# EAGLE library part LPC2468FET208 (library nxp-arm)
MICROCONTROLLER Single-chip 16-bit/32-bit micro; 512 kB flash, Ethernet, CAN, ISP/IAP, USB 2.0 device/host/OTG, external memory interface
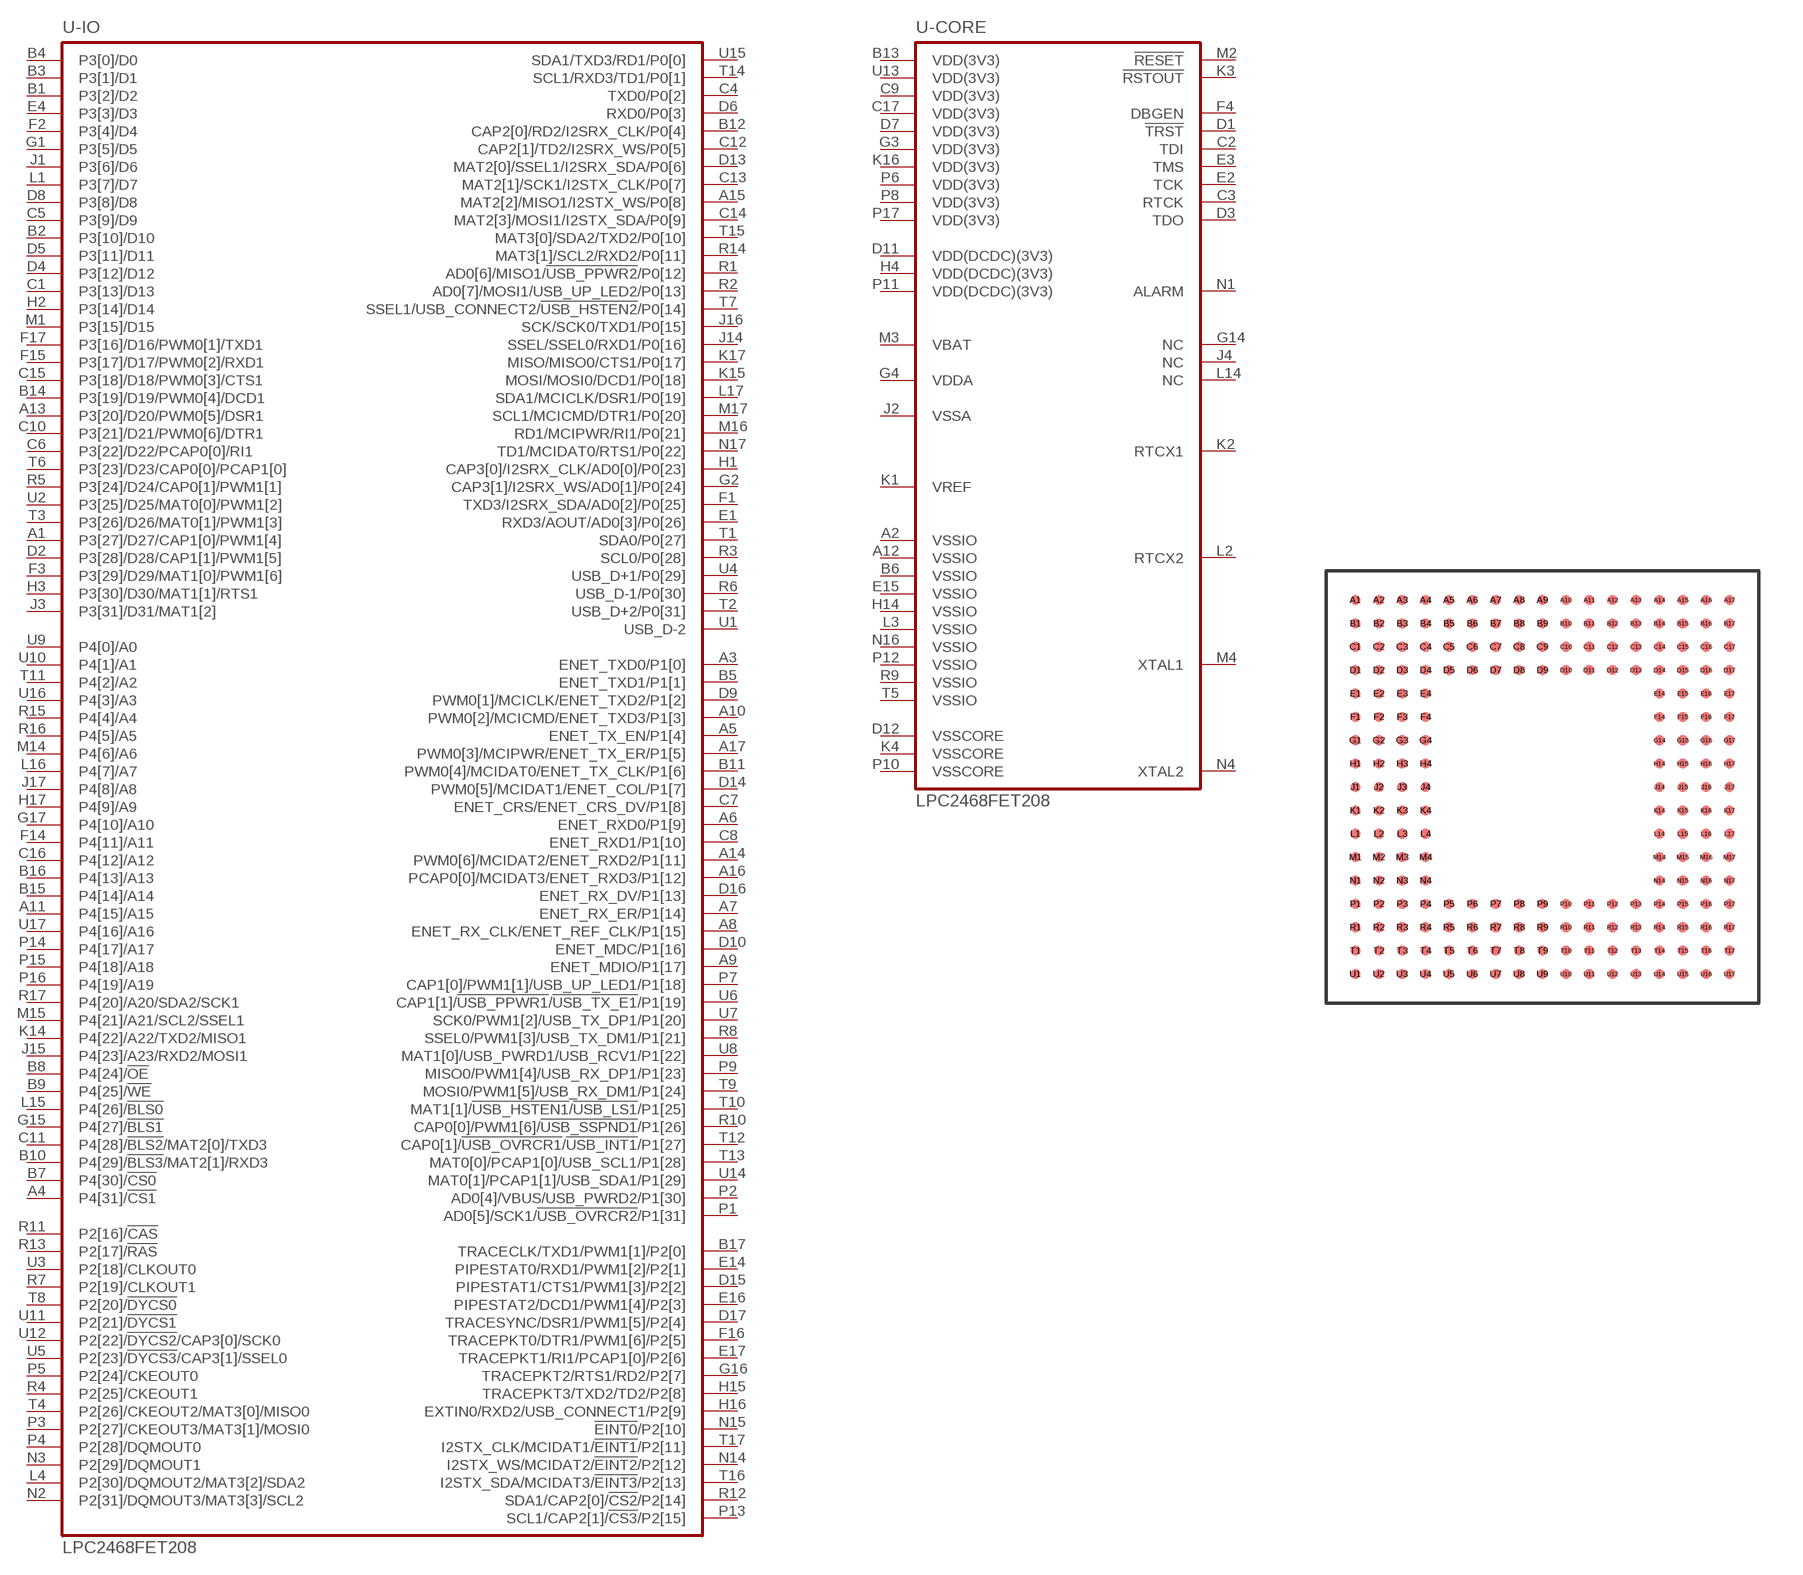
[diagram p1: symbol with the pads of TFBGA208; footprint TFBGA208]

Designator prefix U; gates -CORE=LPC2468-CORE -IO=LPC2468-IO

## LPC2468FET208 (P1I: o)  [TFBGA208]
A1  -IO:P3[27]/D27/CAP1[0]/PWM1[4]
A2  -CORE:VSSIO  pwr
A3  -IO:ENET_TXD0/P1[0]
A4  -IO:P4[31]/!CS1!
A5  -IO:ENET_TX_EN/P1[4]
A6  -IO:ENET_RXD0/P1[9]
A7  -IO:ENET_RX_ER/P1[14]
A8  -IO:ENET_RX_CLK/ENET_REF_CLK/P1[15]
A9  -IO:ENET_MDIO/P1[17]
A10  -IO:PWM0[2]/MCICMD/ENET_TXD3/P1[3]
A11  -IO:P4[15]/A15
A12  -CORE:VSSIO  pwr
A13  -IO:P3[20]/D20/PWM0[5]/DSR1
A14  -IO:PWM0[6]/MCIDAT2/ENET_RXD2/P1[11]
A15  -IO:MAT2[2]/MISO1/I2STX_WS/P0[8]
A16  -IO:PCAP0[0]/MCIDAT3/ENET_RXD3/P1[12]
A17  -IO:PWM0[3]/MCIPWR/ENET_TX_ER/P1[5]
B1  -IO:P3[2]/D2
B2  -IO:P3[10]/D10
B3  -IO:P3[1]/D1
B4  -IO:P3[0]/D0
B5  -IO:ENET_TXD1/P1[1]
B6  -CORE:VSSIO  pwr
B7  -IO:P4[30]/!CS0!
B8  -IO:P4[24]/!OE!
B9  -IO:P4[25]/!WE!
B10  -IO:P4[29]/!BLS3!/MAT2[1]/RXD3
B11  -IO:PWM0[4]/MCIDAT0/ENET_TX_CLK/P1[6]
B12  -IO:CAP2[0]/RD2/I2SRX_CLK/P0[4]
B13  -CORE:VDD(3V3)  pwr
B14  -IO:P3[19]/D19/PWM0[4]/DCD1
B15  -IO:P4[14]/A14
B16  -IO:P4[13]/A13
B17  -IO:TRACECLK/TXD1/PWM1[1]/P2[0]
C1  -IO:P3[13]/D13
C2  -CORE:TDI  in
C3  -CORE:RTCK
C4  -IO:TXD0/P0[2]
C5  -IO:P3[9]/D9
C6  -IO:P3[22]/D22/PCAP0[0]/RI1
C7  -IO:ENET_CRS/ENET_CRS_DV/P1[8]
C8  -IO:ENET_RXD1/P1[10]
C9  -CORE:VDD(3V3)  pwr
C10  -IO:P3[21]/D21/PWM0[6]/DTR1
C11  -IO:P4[28]/!BLS2!/MAT2[0]/TXD3
C12  -IO:CAP2[1]/TD2/I2SRX_WS/P0[5]
C13  -IO:MAT2[1]/SCK1/I2STX_CLK/P0[7]
C14  -IO:MAT2[3]/MOSI1/I2STX_SDA/P0[9]
C15  -IO:P3[18]/D18/PWM0[3]/CTS1
C16  -IO:P4[12]/A12
C17  -CORE:VDD(3V3)  pwr
D1  -CORE:!TRST!  in
D2  -IO:P3[28]/D28/CAP1[1]/PWM1[5]
D3  -CORE:TDO  out
D4  -IO:P3[12]/D12
D5  -IO:P3[11]/D11
D6  -IO:RXD0/P0[3]
D7  -CORE:VDD(3V3)  pwr
D8  -IO:P3[8]/D8
D9  -IO:PWM0[1]/MCICLK/ENET_TXD2/P1[2]
D10  -IO:ENET_MDC/P1[16]
D11  -CORE:VDD(DCDC)(3V3)  pwr
D12  -CORE:VSSCORE  pwr
D13  -IO:MAT2[0]/SSEL1/I2SRX_SDA/P0[6]
D14  -IO:PWM0[5]/MCIDAT1/ENET_COL/P1[7]
D15  -IO:PIPESTAT1/CTS1/PWM1[3]/P2[2]
D16  -IO:ENET_RX_DV/P1[13]
D17  -IO:TRACESYNC/DSR1/PWM1[5]/P2[4]
E1  -IO:RXD3/AOUT/AD0[3]/P0[26]
E2  -CORE:TCK  in
E3  -CORE:TMS  in
E4  -IO:P3[3]/D3
E14  -IO:PIPESTAT0/RXD1/PWM1[2]/P2[1]
E15  -CORE:VSSIO  pwr
E16  -IO:PIPESTAT2/DCD1/PWM1[4]/P2[3]
E17  -IO:TRACEPKT1/RI1/PCAP1[0]/P2[6]
F1  -IO:TXD3/I2SRX_SDA/AD0[2]/P0[25]
F2  -IO:P3[4]/D4
F3  -IO:P3[29]/D29/MAT1[0]/PWM1[6]
F4  -CORE:DBGEN  in
F14  -IO:P4[11]/A11
F15  -IO:P3[17]/D17/PWM0[2]/RXD1
F16  -IO:TRACEPKT0/DTR1/PWM1[6]/P2[5]
F17  -IO:P3[16]/D16/PWM0[1]/TXD1
G1  -IO:P3[5]/D5
G2  -IO:CAP3[1]/I2SRX_WS/AD0[1]/P0[24]
G3  -CORE:VDD(3V3)  pwr
G4  -CORE:VDDA  pwr
G14  -CORE:NC  nc
G15  -IO:P4[27]/!BLS1!
G16  -IO:TRACEPKT2/RTS1/RD2/P2[7]
G17  -IO:P4[10]/A10
H1  -IO:CAP3[0]/I2SRX_CLK/AD0[0]/P0[23]
H2  -IO:P3[14]/D14
H3  -IO:P3[30]/D30/MAT1[1]/RTS1
H4  -CORE:VDD(DCDC)(3V3)  pwr
H14  -CORE:VSSIO  pwr
H15  -IO:TRACEPKT3/TXD2/TD2/P2[8]
H16  -IO:EXTIN0/RXD2/USB_CONNECT1/P2[9]
H17  -IO:P4[9]/A9
J1  -IO:P3[6]/D6
J2  -CORE:VSSA  pwr
J3  -IO:P3[31]/D31/MAT1[2]
J4  -CORE:NC  nc
J14  -IO:SSEL/SSEL0/RXD1/P0[16]
J15  -IO:P4[23]/A23/RXD2/MOSI1
J16  -IO:SCK/SCK0/TXD1/P0[15]
J17  -IO:P4[8]/A8
K1  -CORE:VREF  pwr
K2  -CORE:RTCX1  in
K3  -CORE:!RSTOUT!  out
K4  -CORE:VSSCORE  pwr
K14  -IO:P4[22]/A22/TXD2/MISO1
K15  -IO:MOSI/MOSI0/DCD1/P0[18]
K16  -CORE:VDD(3V3)  pwr
K17  -IO:MISO/MISO0/CTS1/P0[17]
L1  -IO:P3[7]/D7
L2  -CORE:RTCX2  out
L3  -CORE:VSSIO  pwr
L4  -IO:P2[30]/DQMOUT2/MAT3[2]/SDA2
L14  -CORE:NC  nc
L15  -IO:P4[26]/!BLS0!
L16  -IO:P4[7]/A7
L17  -IO:SDA1/MCICLK/DSR1/P0[19]
M1  -IO:P3[15]/D15
M2  -CORE:!RESET!  in
M3  -CORE:VBAT  pwr
M4  -CORE:XTAL1  in
M14  -IO:P4[6]/A6
M15  -IO:P4[21]/A21/SCL2/SSEL1
M16  -IO:RD1/MCIPWR/RI1/P0[21]
M17  -IO:SCL1/MCICMD/DTR1/P0[20]
N1  -CORE:ALARM  out
N2  -IO:P2[31]/DQMOUT3/MAT3[3]/SCL2
N3  -IO:P2[29]/DQMOUT1
N4  -CORE:XTAL2  out
N14  -IO:I2STX_WS/MCIDAT2/!EINT2!/P2[12]
N15  -IO:!EINT0!/P2[10]
N16  -CORE:VSSIO  pwr
N17  -IO:TD1/MCIDAT0/RTS1/P0[22]
P1  -IO:AD0[5]/SCK1/!USB_OVRCR2!/P1[31]
P2  -IO:AD0[4]/VBUS/USB_PWRD2/P1[30]
P3  -IO:P2[27]/CKEOUT3/MAT3[1]/MOSI0
P4  -IO:P2[28]/DQMOUT0
P5  -IO:P2[24]/CKEOUT0
P6  -CORE:VDD(3V3)  pwr
P7  -IO:CAP1[0]/PWM1[1]/USB_UP_LED1/P1[18]
P8  -CORE:VDD(3V3)  pwr
P9  -IO:MISO0/PWM1[4]/USB_RX_DP1/P1[23]
P10  -CORE:VSSCORE  pwr
P11  -CORE:VDD(DCDC)(3V3)  pwr
P12  -CORE:VSSIO  pwr
P13  -IO:SCL1/CAP2[1]/!CS3!/P2[15]
P14  -IO:P4[17]/A17
P15  -IO:P4[18]/A18
P16  -IO:P4[19]/A19
P17  -CORE:VDD(3V3)  pwr
R1  -IO:AD0[6]/MISO1/!USB_PPWR2!/P0[12]
R2  -IO:AD0[7]/MOSI1/USB_UP_LED2/P0[13]
R3  -IO:SCL0/P0[28]
R4  -IO:P2[25]/CKEOUT1
R5  -IO:P3[24]/D24/CAP0[1]/PWM1[1]
R6  -IO:USB_D-1/P0[30]
R7  -IO:P2[19]/CLKOUT1
R8  -IO:SSEL0/PWM1[3]/USB_TX_DM1/P1[21]
R9  -CORE:VSSIO  pwr
R10  -IO:CAP0[0]/PWM1[6]/!USB_SSPND1!/P1[26]
R11  -IO:P2[16]/!CAS!
R12  -IO:SDA1/CAP2[0]/!CS2!/P2[14]
R13  -IO:P2[17]/!RAS!
R14  -IO:MAT3[1]/SCL2/RXD2/P0[11]
R15  -IO:P4[4]/A4
R16  -IO:P4[5]/A5
R17  -IO:P4[20]/A20/SDA2/SCK1
T1  -IO:SDA0/P0[27]
T2  -IO:USB_D+2/P0[31]
T3  -IO:P3[26]/D26/MAT0[1]/PWM1[3]
T4  -IO:P2[26]/CKEOUT2/MAT3[0]/MISO0
T5  -CORE:VSSIO  pwr
T6  -IO:P3[23]/D23/CAP0[0]/PCAP1[0]
T7  -IO:SSEL1/USB_CONNECT2/!USB_HSTEN2!/P0[14]
T8  -IO:P2[20]/!DYCS0!
T9  -IO:MOSI0/PWM1[5]/USB_RX_DM1/P1[24]
T10  -IO:MAT1[1]/!USB_HSTEN1!/!USB_LS1!/P1[25]
T11  -IO:P4[2]/A2
T12  -IO:CAP0[1]/!USB_OVRCR1!/!USB_INT1!/P1[27]
T13  -IO:MAT0[0]/PCAP1[0]/USB_SCL1/P1[28]
T14  -IO:SCL1/RXD3/TD1/P0[1]
T15  -IO:MAT3[0]/SDA2/TXD2/P0[10]
T16  -IO:I2STX_SDA/MCIDAT3/!EINT3!/P2[13]
T17  -IO:I2STX_CLK/MCIDAT1/!EINT1!/P2[11]
U1  -IO:USB_D-2
U2  -IO:P3[25]/D25/MAT0[0]/PWM1[2]
U3  -IO:P2[18]/CLKOUT0
U4  -IO:USB_D+1/P0[29]
U5  -IO:P2[23]/!DYCS3!/CAP3[1]/SSEL0
U6  -IO:CAP1[1]/!USB_PPWR1!/!USB_TX_E1!/P1[19]
U7  -IO:SCK0/PWM1[2]/USB_TX_DP1/P1[20]
U8  -IO:MAT1[0]/USB_PWRD1/USB_RCV1/P1[22]
U9  -IO:P4[0]/A0
U10  -IO:P4[1]/A1
U11  -IO:P2[21]/!DYCS1!
U12  -IO:P2[22]/!DYCS2!/CAP3[0]/SCK0
U13  -CORE:VDD(3V3)  pwr
U14  -IO:MAT0[1]/PCAP1[1]/USB_SDA1/P1[29]
U15  -IO:SDA1/TXD3/RD1/P0[0]
U16  -IO:P4[3]/A3
U17  -IO:P4[16]/A16

## Footprint TFBGA208 (pad centres in mm)
TFBGA208 body 15 x 15 x 0.7 mm, pitch 0.8 mm outline SOT950-1
smd 0.35 x 0.35: A1 -6.4,6.4; A2 -5.6,6.4; A3 -4.8,6.4; A4 -4,6.4; A5 -3.2,6.4; A6 -2.4,6.4; A7 -1.6,6.4; A8 -0.8,6.4; A9 0,6.4; A10 0.8,6.4; A11 1.6,6.4; A12 2.4,6.4; A13 3.2,6.4; A14 4,6.4; A15 4.8,6.4; A16 5.6,6.4; A17 6.4,6.4; B1 -6.4,5.6; B2 -5.6,5.6; B3 -4.8,5.6; B4 -4,5.6; B5 -3.2,5.6; B6 -2.4,5.6; B7 -1.6,5.6; B8 -0.8,5.6; B9 0,5.6; B10 0.8,5.6; B11 1.6,5.6; B12 2.4,5.6; B13 3.2,5.6; B14 4,5.6; B15 4.8,5.6; B16 5.6,5.6; B17 6.4,5.6; C1 -6.4,4.8; C2 -5.6,4.8; C3 -4.8,4.8; C4 -4,4.8; C5 -3.2,4.8; C6 -2.4,4.8; C7 -1.6,4.8; C8 -0.8,4.8; C9 0,4.8; C10 0.8,4.8; C11 1.6,4.8; C12 2.4,4.8; C13 3.2,4.8; C14 4,4.8; C15 4.8,4.8; C16 5.6,4.8; C17 6.4,4.8; D1 -6.4,4; D2 -5.6,4; D3 -4.8,4; D4 -4,4; D5 -3.2,4; D6 -2.4,4; D7 -1.6,4; D8 -0.8,4; D9 0,4; D10 0.8,4; D11 1.6,4; D12 2.4,4; D13 3.2,4; D14 4,4; D15 4.8,4; D16 5.6,4; D17 6.4,4; E1 -6.4,3.2; E2 -5.6,3.2; E3 -4.8,3.2; E4 -4,3.2; E14 4,3.2; E15 4.8,3.2; E16 5.6,3.2; E17 6.4,3.2; F1 -6.4,2.4; F2 -5.6,2.4; F3 -4.8,2.4; F4 -4,2.4; F14 4,2.4; F15 4.8,2.4; F16 5.6,2.4; F17 6.4,2.4; G1 -6.4,1.6; G2 -5.6,1.6; G3 -4.8,1.6; G4 -4,1.6; G14 4,1.6; G15 4.8,1.6; G16 5.6,1.6; G17 6.4,1.6; H1 -6.4,0.8; H2 -5.6,0.8; H3 -4.8,0.8; H4 -4,0.8; H14 4,0.8; H15 4.8,0.8; H16 5.6,0.8; H17 6.4,0.8; J1 -6.4,0; J2 -5.6,0; J3 -4.8,0; J4 -4,0; J14 4,0; J15 4.8,0; J16 5.6,0; J17 6.4,0; K1 -6.4,-0.8; K2 -5.6,-0.8; K3 -4.8,-0.8; K4 -4,-0.8; K14 4,-0.8; K15 4.8,-0.8; K16 5.6,-0.8; K17 6.4,-0.8; L1 -6.4,-1.6; L2 -5.6,-1.6; L3 -4.8,-1.6; L4 -4,-1.6; L14 4,-1.6; L15 4.8,-1.6; L16 5.6,-1.6; L17 6.4,-1.6; M1 -6.4,-2.4; M2 -5.6,-2.4; M3 -4.8,-2.4; M4 -4,-2.4; M14 4,-2.4; M15 4.8,-2.4; M16 5.6,-2.4; M17 6.4,-2.4; N1 -6.4,-3.2; N2 -5.6,-3.2; N3 -4.8,-3.2; N4 -4,-3.2; N14 4,-3.2; N15 4.8,-3.2; N16 5.6,-3.2; N17 6.4,-3.2; P1 -6.4,-4; P2 -5.6,-4; P3 -4.8,-4; P4 -4,-4; P5 -3.2,-4; P6 -2.4,-4; P7 -1.6,-4; P8 -0.8,-4; P9 0,-4; P10 0.8,-4; P11 1.6,-4; P12 2.4,-4; P13 3.2,-4; P14 4,-4; P15 4.8,-4; P16 5.6,-4; P17 6.4,-4; R1 -6.4,-4.8; R2 -5.6,-4.8; R3 -4.8,-4.8; R4 -4,-4.8; R5 -3.2,-4.8; R6 -2.4,-4.8; R7 -1.6,-4.8; R8 -0.8,-4.8; R9 0,-4.8; R10 0.8,-4.8; R11 1.6,-4.8; R12 2.4,-4.8; R13 3.2,-4.8; R14 4,-4.8; R15 4.8,-4.8; R16 5.6,-4.8; R17 6.4,-4.8; T1 -6.4,-5.6; T2 -5.6,-5.6; T3 -4.8,-5.6; T4 -4,-5.6; T5 -3.2,-5.6; T6 -2.4,-5.6; T7 -1.6,-5.6; T8 -0.8,-5.6; T9 0,-5.6; T10 0.8,-5.6; T11 1.6,-5.6; T12 2.4,-5.6; T13 3.2,-5.6; T14 4,-5.6; T15 4.8,-5.6; T16 5.6,-5.6; T17 6.4,-5.6; U1 -6.4,-6.4; U2 -5.6,-6.4; U3 -4.8,-6.4; U4 -4,-6.4; U5 -3.2,-6.4; U6 -2.4,-6.4; U7 -1.6,-6.4; U8 -0.8,-6.4; U9 0,-6.4; U10 0.8,-6.4; U11 1.6,-6.4; U12 2.4,-6.4; U13 3.2,-6.4; U14 4,-6.4; U15 4.8,-6.4; U16 5.6,-6.4; U17 6.4,-6.4